# EAGLE library part 62100821821 (library Wuerth_Elektronik_eiCan_Pin_&_Socked_Headers_v1.3)
WR-PHD 2.00mm Dual SMT Socket Header Low Profile, 8 Pins
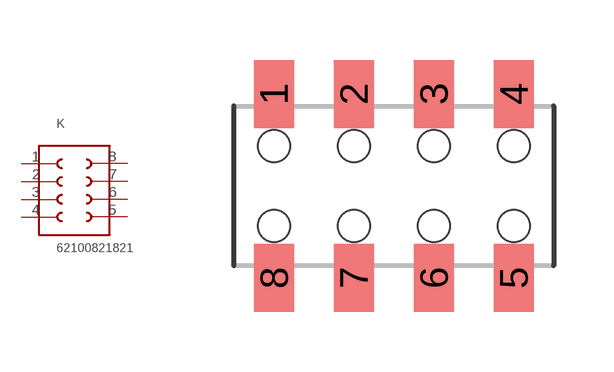
[diagram p313: symbol with the pads of 62100821821; footprint 62100821821]

Designator prefix K

## 62100821821  [62100821821]
1  1  pas
2  2  pas
3  3  pas
4  4  pas
5  5  pas
6  6  pas
7  7  pas
8  8  pas

## Footprint 62100821821 (pad centres in mm)
WR-PHD 2.00mm Dual SMT Socket Header Low Profile, 8 Pins
smd 1 x 1.7: 1 -3,2.3; 2 -1,2.3; 3 1,2.3; 4 3,2.3; 5 3,-2.3; 6 1,-2.3; 7 -1,-2.3; 8 -3,-2.3
hole 0.8 at -1,1
hole 0.8 at -3,1
hole 0.8 at -3,-1
hole 0.8 at -1,-1
hole 0.8 at 1,1
hole 0.8 at 1,-1
hole 0.8 at 3,1
hole 0.8 at 3,-1